# EAGLE library part AT91R4008 (library atmel)
AT91 ARM Thumb RISC-Controller Microcontroller AT91R40008
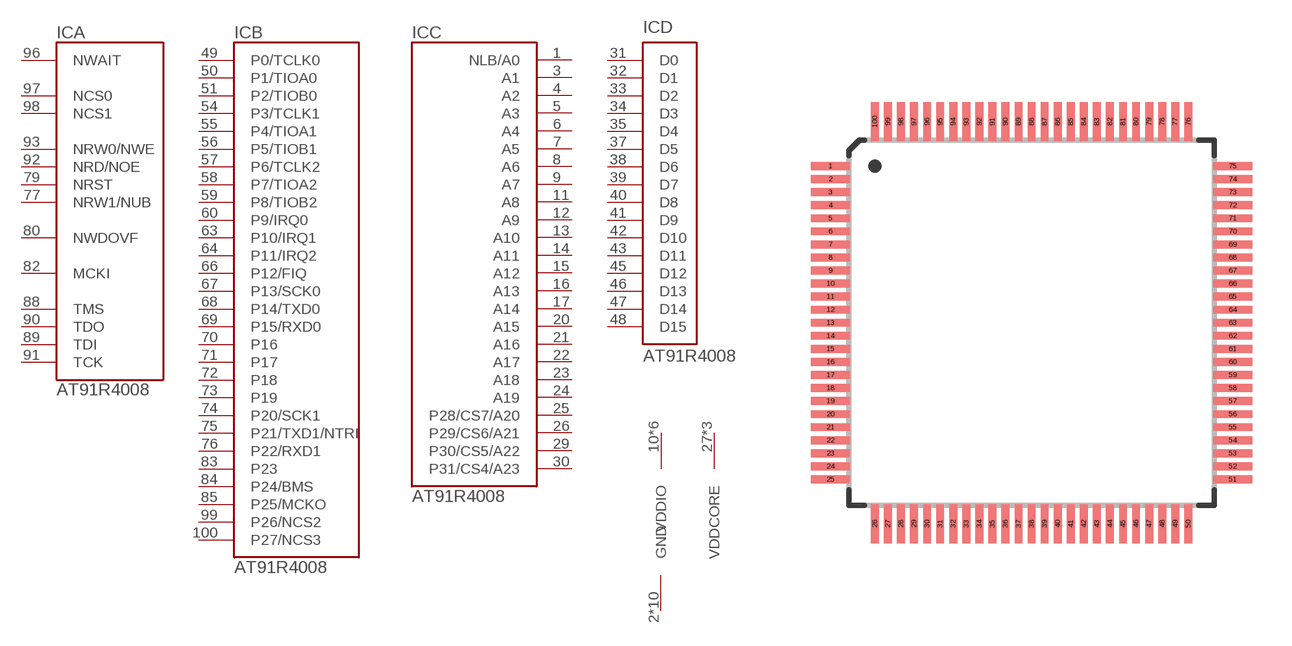
[diagram p27: symbol with the pads of QFP100_14X14_0.50; footprint QFP100_14X14_0.50]

Designator prefix IC; gates A=AT91R4008 B=AT91R4008-PARPORT C=AT91R4008-ADR D=D0-15 P1=GND P2=VDDIO P3=VDDCORE

## AT91R4008  [QFP100_14X14_0.50]
1  C:NLB/A0  out
2  P1:GND  pwr
3  C:A1  out
4  C:A2  out
5  C:A3  out
6  C:A4  out
7  C:A5  out
8  C:A6  out
9  C:A7  out
10  P2:VDDIO  pwr
11  C:A8  out
12  C:A9  out
13  C:A10  out
14  C:A11  out
15  C:A12  out
16  C:A13  out
17  C:A14  out
18  P1:GND  pwr
19  P1:GND  pwr
20  C:A15  out
21  C:A16  out
22  C:A17  out
23  C:A18  out
24  C:A19  out
25  C:P28/CS7/A20  out
26  C:P29/CS6/A21  out
27  P3:VDDCORE  pwr
28  P2:VDDIO  pwr
29  C:P30/CS5/A22  out
30  C:P31/CS4/A23  out
31  D:D0  hiz
32  D:D1  hiz
33  D:D2  hiz
34  D:D3  hiz
35  D:D4  hiz
36  P1:GND  pwr
37  D:D5  hiz
38  D:D6  hiz
39  D:D7  hiz
40  D:D8  hiz
41  D:D9  hiz
42  D:D10  hiz
43  D:D11  hiz
44  P2:VDDIO  pwr
45  D:D12  hiz
46  D:D13  hiz
47  D:D14  hiz
48  D:D15  hiz
49  B:P0/TCLK0
50  B:P1/TIOA0
51  B:P2/TIOB0
52  P1:GND  pwr
53  P1:GND  pwr
54  B:P3/TCLK1
55  B:P4/TIOA1
56  B:P5/TIOB1
57  B:P6/TCLK2
58  B:P7/TIOA2
59  B:P8/TIOB2
60  B:P9/IRQ0
61  P3:VDDCORE  pwr
62  P2:VDDIO  pwr
63  B:P10/IRQ1
64  B:P11/IRQ2
65  P1:GND  pwr
66  B:P12/FIQ
67  B:P13/SCK0
68  B:P14/TXD0
69  B:P15/RXD0
70  B:P16
71  B:P17
72  B:P18
73  B:P19
74  B:P20/SCK1
75  B:P21/TXD1/NTRI
76  B:P22/RXD1
77  A:NRW1/NUB  out
78  P1:GND  pwr
79  A:NRST  out
80  A:NWDOVF  out
81  P2:VDDIO  pwr
82  A:MCKI  in
83  B:P23
84  B:P24/BMS
85  B:P25/MCKO
86  P1:GND  pwr
87  P1:GND  pwr
88  A:TMS  in
89  A:TDI  in
90  A:TDO  out
91  A:TCK  in
92  A:NRD/NOE  out
93  A:NRW0/NWE  out
94  P3:VDDCORE  pwr
95  P2:VDDIO  pwr
96  A:NWAIT  in
97  A:NCS0  out
98  A:NCS1  out
99  B:P26/NCS2
100  B:P27/NCS3

## Footprint QFP100_14X14_0.50 (pad centres in mm)
Thin Plasic Quad Flat Package, 14mm x 14mm body, 0.50mm lead pitch JEDEC: MS-026 AED ATMEL Code: 100A
smd 1.5 x 0.3: 1 -7.7,6; 2 -7.7,5.5; 3 -7.7,5; 4 -7.7,4.5; 5 -7.7,4; 6 -7.7,3.5; 7 -7.7,3; 8 -7.7,2.5; 9 -7.7,2; 10 -7.7,1.5; 11 -7.7,1; 12 -7.7,0.5; 13 -7.7,0; 14 -7.7,-0.5; 15 -7.7,-1; 16 -7.7,-1.5; 17 -7.7,-2; 18 -7.7,-2.5; 19 -7.7,-3; 20 -7.7,-3.5; 21 -7.7,-4; 22 -7.7,-4.5; 23 -7.7,-5; 24 -7.7,-5.5; 25 -7.7,-6; 51 7.7,-6; 52 7.7,-5.5; 53 7.7,-5; 54 7.7,-4.5; 55 7.7,-4; 56 7.7,-3.5; 57 7.7,-3; 58 7.7,-2.5; 59 7.7,-2; 60 7.7,-1.5; 61 7.7,-1; 62 7.7,-0.5; 63 7.7,0; 64 7.7,0.5; 65 7.7,1; 66 7.7,1.5; 67 7.7,2; 68 7.7,2.5; 69 7.7,3; 70 7.7,3.5; 71 7.7,4; 72 7.7,4.5; 73 7.7,5; 74 7.7,5.5; 75 7.7,6
smd 0.3 x 1.5: 26 -6,-7.7; 27 -5.5,-7.7; 28 -5,-7.7; 29 -4.5,-7.7; 30 -4,-7.7; 31 -3.5,-7.7; 32 -3,-7.7; 33 -2.5,-7.7; 34 -2,-7.7; 35 -1.5,-7.7; 36 -1,-7.7; 37 -0.5,-7.7; 38 0,-7.7; 39 0.5,-7.7; 40 1,-7.7; 41 1.5,-7.7; 42 2,-7.7; 43 2.5,-7.7; 44 3,-7.7; 45 3.5,-7.7; 46 4,-7.7; 47 4.5,-7.7; 48 5,-7.7; 49 5.5,-7.7; 50 6,-7.7; 76 6,7.7; 77 5.5,7.7; 78 5,7.7; 79 4.5,7.7; 80 4,7.7; 81 3.5,7.7; 82 3,7.7; 83 2.5,7.7; 84 2,7.7; 85 1.5,7.7; 86 1,7.7; 87 0.5,7.7; 88 0,7.7; 89 -0.5,7.7; 90 -1,7.7; 91 -1.5,7.7; 92 -2,7.7; 93 -2.5,7.7; 94 -3,7.7; 95 -3.5,7.7; 96 -4,7.7; 97 -4.5,7.7; 98 -5,7.7; 99 -5.5,7.7; 100 -6,7.7